# EAGLE library part MOTOR (library MouseLib)
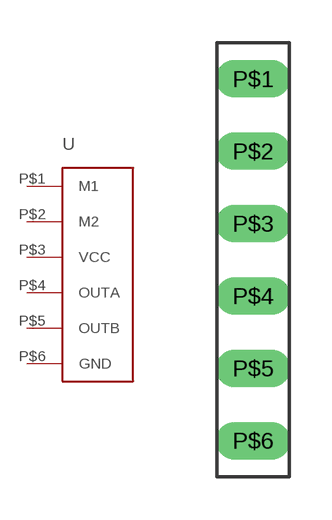
[diagram p3: symbol with the pads of 6PINS; footprint 6PINS]

Designator prefix -

## MOTOR  [6PINS]
P$1  M1  out
P$2  M2  out
P$3  VCC  pwr
P$4  OUTA  in
P$5  OUTB  in
P$6  GND  pwr

## Footprint 6PINS (pad centres in mm)
drill 0.8 pad 1.143 long: P$1 -2.54,10.16; P$2 -2.54,7.62; P$3 -2.54,5.08; P$4 -2.54,2.54; P$5 -2.54,0; P$6 -2.54,-2.54